# Altium schematic symbol library Schlib_jp.SchLib: 203 symbols (part 6 of 6)
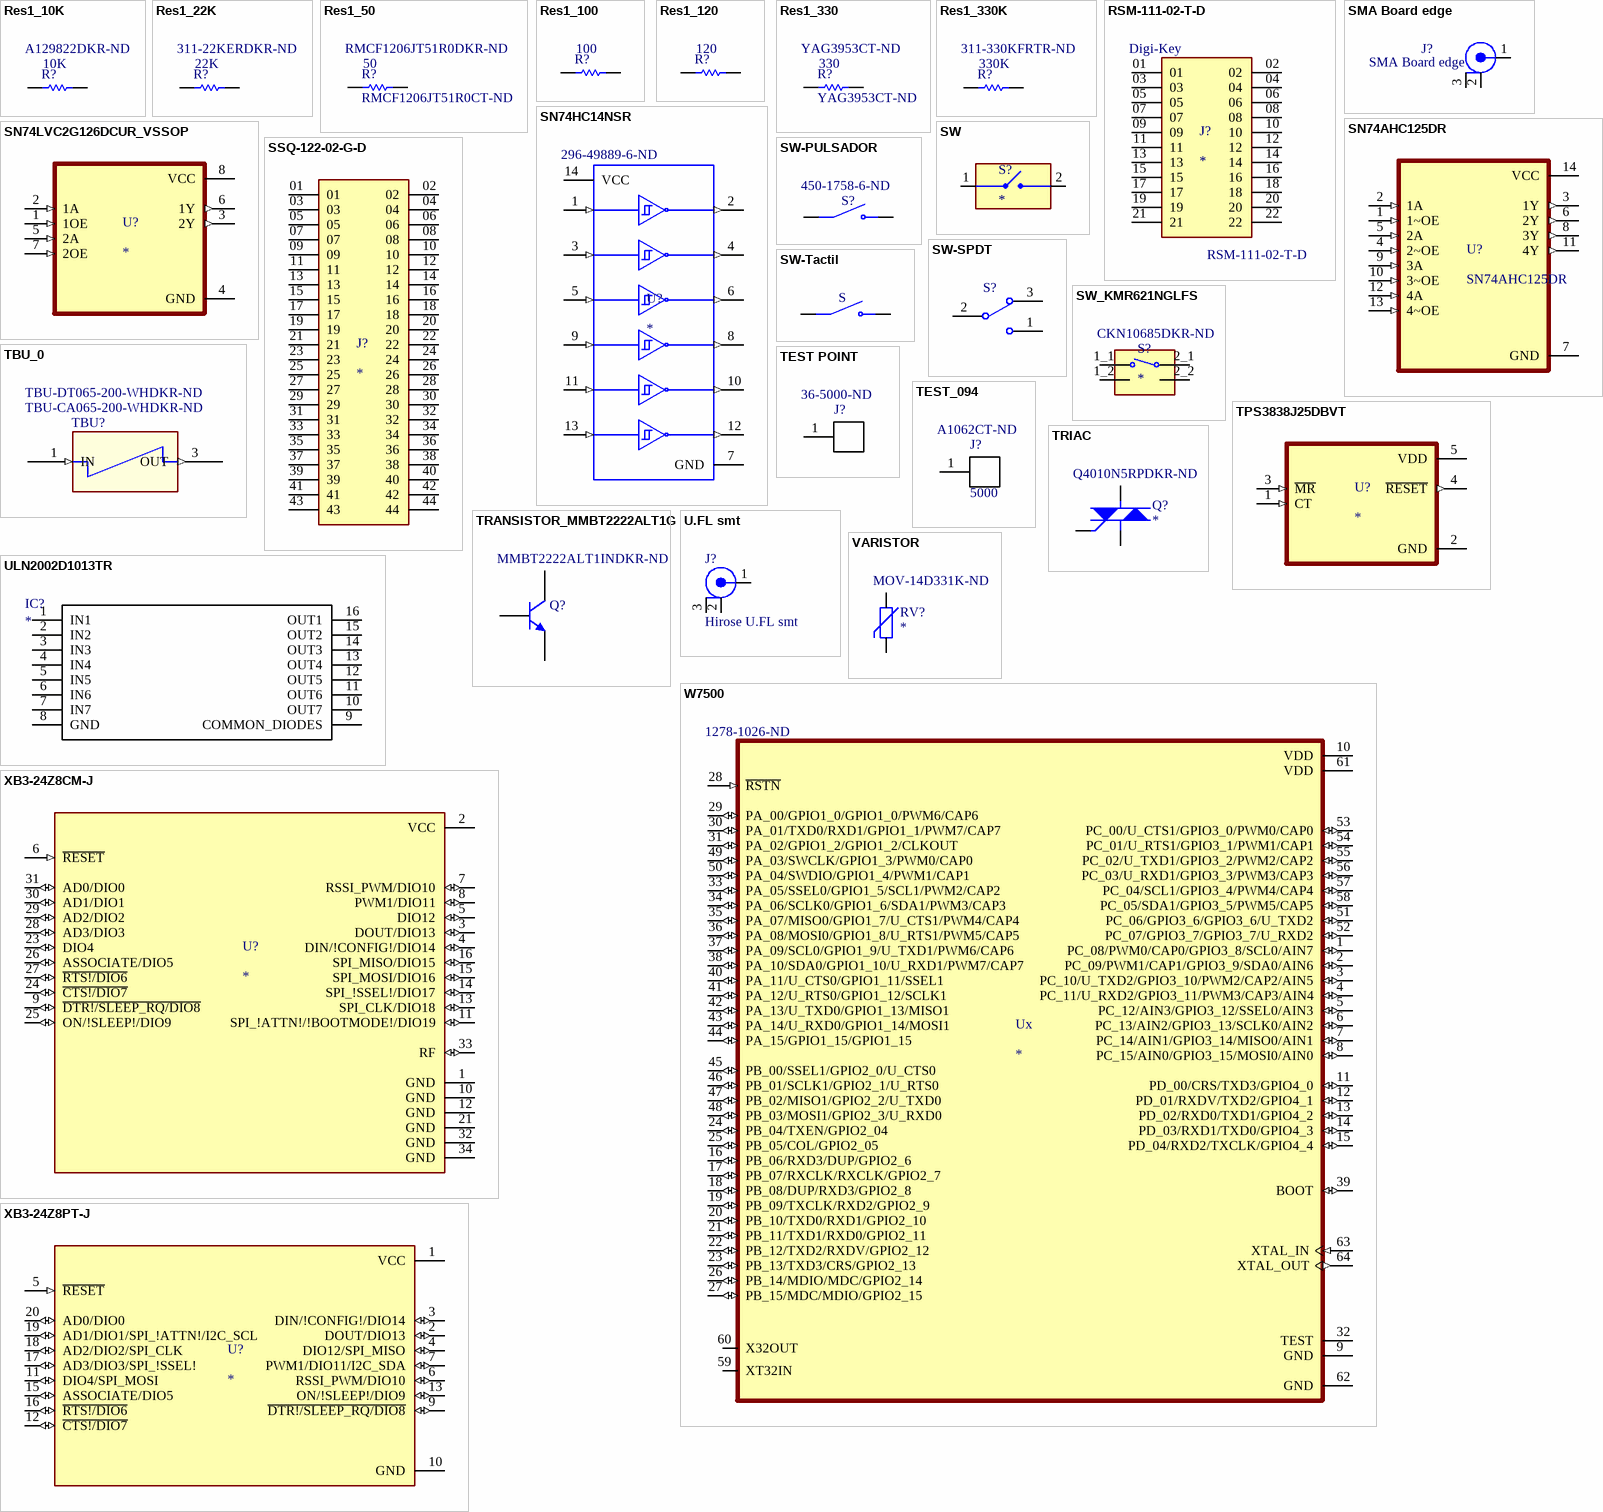
[diagram p13: symbols Res1_10K to XB3-24Z8PT-J]

## TEST POINT
designator J?, comment 36-5000-ND
Red PC Test Point, Miniature Phosphor Bronze Silver Plating Through Hole Mounting Type; MF: Keystone Electronics; MP: 5000; Body Material: PBT,Bronze; Number of Contacts: 1; Insulation: Insulated; Outside Diameter: 2.54mm; Inside Diameter: 1.27mm; Hole Diameter: 1.6mm; Package: TO-3 3M; Availability: Unavailable; SnapEDA_Link: https://www.snapeda.com/parts/5000/Keystone%20Electronics/view-part/?ref=snap; Price: None; Value: *; Supplier 1: Digi-Key; Manufacturer: Keystone Electronics; Manufacturer Part Number: 5000; Stock 1: 183854; Pricing 1: 1=0.35, 10=0.335, 50=0.2438, 250=0.21032, 1000=0.1714, 2500=0.15296, 5000=0.1434 (USD); Mount: Through Hole,PCB; Color: Red; Material: Nylon,Bronze,Silver; Contact Material: Bronze; Contact Plating: Silver,Tin; Plating: Silver; Housing Color: Red; Package Quantity: 100; Packaging: Bulk; Number of Ports: 1; Orientation: Straight; Length: 7.62mm; Height: 0.3inch; REACH SVHC: No SVHC; Lead Free: Lead Free; Flammability Rating: UL94 V-0; ComponentLink1URL: http://www.keyelco.com/product-pdf.cfm?p=1309&src-supplier=Digi-Key; ComponentLink1Description: http://www.keyelco.com/product-pdf.cfm?p=1309&src-supplier=Digi-Key; ComponentLink2URL: http://www.alliedelec.com/m/d/a35543cf4de068fc17c6a4282c4b707f.pdf?src-supplier=Allied+Electronics; ComponentLink2Description: http://www.alliedelec.com/m/d/a35543cf4de068fc17c6a4282c4b707f.pdf?src-supplier=Allied+Electronics; ComponentLink3URL: http://uk.rs-online.com/webdocs/1416/0900766b814167ba.pdf?src-supplier=RSComponents; ComponentLink3Description: http://uk.rs-online.com/webdocs/1416/0900766b814167ba.pdf?src-supplier=RSComponents; Link: https://www.digikey.com/en/products/detail/keystone-electronics/5000/255326; Digi_Key_Part_Number: 36-5000-ND; Supplier Part Number 1: 36-5000-ND
footprint TEST POINT
pins: 1

## TEST_094
designator J?, comment 5000  Supplier Part Number 1: A1062CT-ND
Circuit Board Hardware - PCB TEST POINT RED; MF: Keystone Electronics; Body Material: PBT,Bronze; Plating: Silver; Number of Contacts: 1; Insulation: Insulated; Outside Diameter: 2.54mm; Inside Diameter: 1.27mm; Hole Diameter: 1.6mm; Body Plating: Tin; Gender: Female; Voltage Rating (AC): 300V; Heavy Duty: No; Insulated Wire Support: Yes; Material Thickness: 0.79mm; Plating Thickness: 2.54um; Sealable: No (Without); Wire Gauge (Max): 22AWG; Wire Gauge (Min): 16AWG; Insulation Diameter: 3.56mm; Stud Diameter: 5mm; Package: TO-3 3M; Availability: Unavailable; SnapEDA_Link: https://www.snapeda.com/parts/5000/Keystone%20Electronics/view-part/?ref=snap; Price: None; MP: 5000; Value: *; Manufacturer: Keystone Electronics; Manufacturer Part Number: 5000; Mount: Through Hole,PCB; Color: Red; Material: Nylon,Bronze,Silver; Contact Material: Bronze; Contact Plating: Silver,Tin; Housing Color: Red; Package Quantity: 100; Packaging: Bulk; Number of Ports: 1; Orientation: Straight; Length: 7.62mm; Height: 0.3inch; REACH SVHC: No SVHC; Lead Free: Lead Free; Flammability Rating: UL94 V-0; ComponentLink1URL: http://www.keyelco.com/product-pdf.cfm?p=1309&src-supplier=Digi-Key; ComponentLink1Description: http://www.keyelco.com/product-pdf.cfm?p=1309&src-supplier=Digi-Key; ComponentLink2URL: http://www.alliedelec.com/m/d/a35543cf4de068fc17c6a4282c4b707f.pdf?src-supplier=Allied+Electronics; ComponentLink2Description: http://www.alliedelec.com/m/d/a35543cf4de068fc17c6a4282c4b707f.pdf?src-supplier=Allied+Electronics; ComponentLink3URL: http://uk.rs-online.com/webdocs/1416/0900766b814167ba.pdf?src-supplier=RSComponents; ComponentLink3Description: http://uk.rs-online.com/webdocs/1416/0900766b814167ba.pdf?src-supplier=RSComponents; Supplier 1: Digi-Key; Stock 1: 38032; Pricing 1: 1=0.36, 10=0.343, 25=0.294, 50=0.2498, 100=0.24, 250=0.21552, 500=0.20574, 1000=0.17145, 2500=0.15675 (USD); Insulation Material: Nylon; Termination: Circular; Voltage Rating (DC): 300V; Number of Holes: 1; Shrouded: No (Without); Wire/Cable Gauge: 16AWG; Thickness: 0.031inch; Depth: 7.92mm; Tongue Thickness: 0.79mm; Wire/Cable Diameter: 3.56mm; Radiation Hardening: No; ELV: Compliant; Government Qualified: Yes; ComponentLink4URL: https://www.te.com/commerce/DocumentDelivery/DDEController?Action=srchrtrv&DocNm=36154&DocType=Customer+Drawing&DocLang=English&src-supplier=Digi-Key; ComponentLink4Description: https://www.te.com/commerce/DocumentDelivery/DDEController?Action=srchrtrv&DocNm=36154&DocType=Customer+Drawing&DocLang=English&src-supplier=Digi-Key; ComponentLink5URL: http://www.te.com/commerce/DocumentDelivery/DDEController?Action=showdoc&DocId=Customer+Drawing%7F36154%7FR1%7Fpdf%7FEnglish%7FENG_CD_36154_R1.pdf%7F2-36154-2&src-supplier=Future+Electronics; ComponentLink5Description: http://www.te.com/commerce/DocumentDelivery/DDEController?Action=showdoc&DocId=Customer+Drawing%7F36154%7FR1%7Fpdf%7FEnglish%7FENG_CD_36154_R1.pdf%7F2-36154-2&src-supplier=Future+Electronics; ComponentLink6URL: https://www.verical.com/server-webapp/html/getDatasheet?partID=93824&src-supplier=Verical; ComponentLink6Description: https://www.verical.com/server-webapp/html/getDatasheet?partID=93824&src-supplier=Verical; ComponentLink7URL: http://www.jameco.com/Jameco/Products/ProdDS/836781.pdf?src-supplier=Jameco; ComponentLink7Description: http://www.jameco.com/Jameco/Products/ProdDS/836781.pdf?src-supplier=Jameco; ComponentLink8URL: http://www.te.com/commerce/DocumentDelivery/DDEController?Action=srchrtrv&DocNm=82042_StdTermsSplices&DocType=DS&DocLang=English&s_cid=1046&src-supplier=Avnet; ComponentLink8Description: http://www.te.com/commerce/DocumentDelivery/DDEController?Action=srchrtrv&DocNm=82042_StdTermsSplices&DocType=DS&DocLang=English&s_cid=1046&src-supplier=Avnet; ComponentLink9URL: https://www.alliedelec.com/m/d/026e5c598ba183ab831b987b0a1c66b1.pdf?src-supplier=Allied+Electronics; ComponentLink9Description: https://www.alliedelec.com/m/d/026e5c598ba183ab831b987b0a1c66b1.pdf?src-supplier=Allied+Electronics
footprint TEST_094
pins: 1

## TPS3838J25DBVT
designator U?
MP: TPS3838J25DBVT; Package: None; Price: None; Value: *; Availability: Unavailable
footprint SOT95P280X145-5N
footprint SOT95P280X145-5N
pins: 1 CT (in), 2 GND (power), 3 ~{MR} (in), 4 ~{RESET} (out), 5 VDD (power)

## TRANSISTOR_MMBT2222ALT1G
designator Q?, comment Supplier Part Number 1: MMBT2222ALT1INDKR-ND  (hidden comment: MMBT2222ALT1HTSA1CT-ND)
Transistor bipolar (BJT) NPN 40V 600mA 300MHz 225mW Montaje en superficie SOT-23; Manufacturer: ON Semiconductor; Manufacturer Part Number: MMBT2222ALT1G; Power Dissipation: 300mW; hFE Min: 100; Number of Elements: 1; Collector Base Voltage (VCBO): 75V; Emitter Base Voltage (VEBO): 6V; Collector Emitter Saturation Voltage: 1V; Element Configuration: Single; Type: General Purpose; Published: 8-Jun-2000; LatestRevisionDate: 15-Jan-2003; LatestRevisionNote: PCB Footprint 'BCY-W3/D4.7' replaced; DatasheetVersion: 1997; PackageVersion: Sep-1998; PackageReference: TO-92A; Publisher: Altium Limited; PackageDescription: TO, Flat Index; 3 In-Line, Axial Leads; Body Dia. 4.5mm; Leads 0.51 x 0.48 mm (max); ComponentLink1Description: Manufacturer Link; ComponentLink1URL: http://www.fairchildsemi.com/; ComponentLink2Description: Datasheet; ComponentLink2URL: http://www.fairchildsemi.com/ds/2N%2F2N3904.pdf; Case/Package: SOT-23-3; Number of Pins: 3; Contact Plating: Tin,Matte; Min Operating Temperature: -55°C; Max Operating Temperature: 150°C; Packaging: Tape and Reel; Polarity: NPN; Max Power Dissipation: 300mW; Package Quantity: 1; Frequency: 300MHz; Collector Emitter Voltage (VCEO): 40V; Max Collector Current: 600mA; Collector Emitter Breakdown Voltage: 40V; Transition Frequency: 300MHz; Max Breakdown Voltage: 40V; Max Frequency: 300MHz; Gain Bandwidth Product: 300MHz; Voltage Rating (DC): 40V; Current Rating: 600mA; Length: 2.9mm; Height: 0.94mm; Width: 1.3mm; Radiation Hardening: No; REACH SVHC: No SVHC; Lead Free: Lead Free; ComponentLink3URL: http://www.onsemi.com/pub/Collateral/MMBT2222LT1-D.PDF?src-supplier=Future+Electronics; ComponentLink3Description: http://www.onsemi.com/pub/Collateral/MMBT2222LT1-D.PDF?src-supplier=Future+Electronics; ComponentLink4URL: https://www.verical.com/server-webapp/html/getDatasheet?partID=82691&src-supplier=Verical; ComponentLink4Description: https://www.verical.com/server-webapp/html/getDatasheet?partID=82691&src-supplier=Verical; ComponentLink5URL: http://www.onsemi.com/pub/Collateral/MMBT2222LT1-D.PDF?src-supplier=Digi-Key; ComponentLink5Description: http://www.onsemi.com/pub/Collateral/MMBT2222LT1-D.PDF?src-supplier=Digi-Key; ComponentLink6URL: http://www.farnell.com/datasheets/2353900.pdf?src-supplier=Element14; ComponentLink6Description: http://www.farnell.com/datasheets/2353900.pdf?src-supplier=Element14; ComponentLink7URL: https://www.alliedelec.com/m/d/3e1498de1daf94616fa6373a99352057.pdf?src-supplier=Allied+Electronics; ComponentLink7Description: https://www.alliedelec.com/m/d/3e1498de1daf94616fa6373a99352057.pdf?src-supplier=Allied+Electronics; ComponentLink8URL: http://www.onsemi.com/pub/Collateral/MMBT2222LT1-D.PDF?src-supplier=Avnet; ComponentLink8Description: http://www.onsemi.com/pub/Collateral/MMBT2222LT1-D.PDF?src-supplier=Avnet; ComponentLink9URL: http://www.onsemi.com/pub/Collateral/MMBT2222LT1-D.PDF?src-supplier=Avnet+Europe; ComponentLink9Description: http://www.onsemi.com/pub/Collateral/MMBT2222LT1-D.PDF?src-supplier=Avnet+Europe; Supplier 1: Digi-Key; Digi_Key_Part_Number: MMBT2222ALT1HTSA1CT-ND; Link: https://www.digikey.com/es/products/detail/infineon-technologies/MMBT2222ALT1HTSA1/593093?s=N4IgTCBcDaILJwEIBUxrAQQDLIIwAlkBlDXAYWQFoA5AERAF0BfIA; ComponentLink10Description: TRANS NPN 40V 0.6A SOT-23; ComponentLink10URL: https://www.digikey.com/es/products/detail/infineon-technologies/MMBT2222ALT1HTSA1/593093?s=N4IgTCBcDaILJwEIBUxrAQQDLIIwAlkBlDXAYWQFoA5AERAF0BfIA
footprint SOT-23-M
pins: 1, 2, 3

## TRIAC
designator Q?  Supplier Part Number 1: Q4010N5RPDKR-ND
Manufacturer: Littelfuse; Manufacturer Part Number: Q4010N5RP; RMS Current (Irms): 10A; Element Configuration: Single; Hold Current: 50mA; Voltage Rating (DC): 400V; Supplier 1: Digi-Key; Stock 1: 1025; Pricing 1: 1=2.03, 10=1.823, 25=1.72, 100=1.4655, 250=1.37608 (USD); Mount: Surface Mount; Case/Package: TO-263-3; Min Operating Temperature: -40°C; Max Operating Temperature: 125°C; Packaging: Tape and Reel; Package Quantity: 1; Current Rating: 10A; Lead Free: Lead Free; ComponentLink1URL: https://media.digikey.com/pdf/Data%20Sheets/Littelfuse%20PDFs/Packing%20Options.pdf?src-supplier=Digi-Key; ComponentLink1Description: https://media.digikey.com/pdf/Data%20Sheets/Littelfuse%20PDFs/Packing%20Options.pdf?src-supplier=Digi-Key; ComponentLink2URL: http://www.littelfuse.com/data/en/Data_Sheets/Littelfuse_Thyristor_Qxx10xx_Qxx10xHx.pdf?src-supplier=Future+Electronics; ComponentLink2Description: http://www.littelfuse.com/data/en/Data_Sheets/Littelfuse_Thyristor_Qxx10xx_Qxx10xHx.pdf?src-supplier=Future+Electronics
footprint TO263
pins: 1, 2, 3

## U.FL smt
designator J?, comment Hirose U.FL smt
U.FL (UMCC) Conector Receptáculo, pin macho 50Ohm Montaje en superficie Soldadura; Digi_Key_Part_Number: H9161CT-ND; Supplier 1: Digi-Key; Supplier Part Number 1: H9161CT-ND; Link: https://www.digikey.com/es/products/detail/U.FL-R-SMT(10)/H9161CT-ND/2135256?utm_campaign=buynow&utm_medium=aggregator&curr=usd&utm_source=octopart; ComponentLink1Description: CONN U.FL RCPT STR 50 OHM SMD; ComponentLink1URL: https://www.digikey.com/es/products/detail/U.FL-R-SMT(10)/H9161CT-ND/2135256?utm_campaign=buynow&utm_medium=aggregator&curr=usd&utm_source=octopart
footprint U.FL SMT
pins: 1 CENTER, 2 SHIELD, 3 SHIELD1

## ULN2002D1013TR
designator IC?
Integrated Circuit; Manufacturer_Name: STMicroelectronics; Manufacturer_Part_Number: ULN2002D1013TR; Datasheet Link: http://www.st.com/st-web-ui/static/active/en/resource/technical/document/datasheet/CD00001244.pdf; Height: 1.75mm; Mouser Part Number: 511-ULN2002D1013TR; Mouser Price/Stock: https://www.mouser.co.uk/ProductDetail/STMicroelectronics/ULN2002D1013TR?qs=YnPipOpXm6EqHzPlgAHRAA%3D%3D; Arrow Part Number: ULN2002D1013TR; Arrow Price/Stock: https://www.arrow.com/en/products/uln2002d1013tr/stmicroelectronics
footprint SOIC127P600X175-16N
pins: 1 IN1, 2 IN2, 3 IN3, 4 IN4, 5 IN5, 6 IN6, 7 IN7, 8 GND, 9 COMMON_DIODES, 10 OUT7, 11 OUT6, 12 OUT5, 13 OUT4, 14 OUT3, 15 OUT2, 16 OUT1

## VARISTOR
designator RV?  Supplier Part Number 1: MOV-14D331K-ND
Manufacturer: Bourns; Manufacturer Part Number: MOV-14D331K; Capacitance: 610pF; Voltage Rating (DC): 330V; Max Surge Current: 4.5kA; Current Rating: 50A; Tolerance: 10%; Max Voltage Rating (AC): 210V; Max Voltage Rating (DC): 275V; Number of Circuits: 1; Energy: 85J; Clamping Voltage: 550V; Power Rating: 600mW; Min Varistor Voltage: 297V; Max Varistor Voltage: 363V; Supplier 1: Digi-Key; Stock 1: 396; Pricing 1: 1=0.39, 10=0.306, 25=0.258, 100=0.21, 250=0.174, 500=0.144, 1000=0.108, 2500=0.099, 5000=0.093 (USD); Mount: Through Hole,Radial; Case/Package: Radial; Weight: 0.105822oz; Min Operating Temperature: -40°C; Max Operating Temperature: 85°C; Packaging: Bulk; Package Quantity: 1000; Clamping Current: 50A; Varistor Voltage: 330V; Diameter: 14mm; Lead Pitch: 7.5mm; Thickness: 4.6mm; Radiation Hardening: No; ComponentLink1URL: http://www.bourns.com/data/global/pdfs/mov14D.pdf?src-supplier=Avnet; ComponentLink1Description: http://www.bourns.com/data/global/pdfs/mov14D.pdf?src-supplier=Avnet; ComponentLink2URL: https://www.alliedelec.com/m/d/b9e30445819aaec1c204374a1e6943ca.pdf?src-supplier=Allied+Electronics; ComponentLink2Description: https://www.alliedelec.com/m/d/b9e30445819aaec1c204374a1e6943ca.pdf?src-supplier=Allied+Electronics; ComponentLink3URL: http://www.bourns.com/docs/Product-Datasheets/MOV14D.pdf?src-supplier=Digi-Key; ComponentLink3Description: http://www.bourns.com/docs/Product-Datasheets/MOV14D.pdf?src-supplier=Digi-Key
footprint VARISTOR2
pins: 1, 2

## W7500
designator Ux  Supplier Part Number 1: 1278-1026-ND
ARMÂ® CortexÂ®-M0 - Microcontroller IC 32-Bit 48MHz 128KB _32K x 32_ FLASH 64-TQFP _7x7_; MF: WIZnet; MP: W7500; SnapEDA_Link: https://www.snapeda.com/parts/W7500/WIZnet/view-part/225423/?ref=snap; Value: *; Availability: Unavailable; Price: None; Package: TQFP-64 WIZnet; Supplier 1: Digi-Key; ComponentLink1Description: 1278-1026-ND; ComponentLink1URL: https://www.digikey.com/es/products/detail/wiznet/W7500/5402374
footprint W7500-LQFP64 (WIZnet ARM Cortex-M0, LQFP64, Pitch 0.40mm)
pins: 1 PC_08/PWM0/CAP0/GPIO3_8/SCL0/AIN7 (io), 2 PC_09/PWM1/CAP1/GPIO3_9/SDA0/AIN6 (io), 3 PC_10/U_TXD2/GPIO3_10/PWM2/CAP2/AIN5 (io), 4 PC_11/U_RXD2/GPIO3_11/PWM3/CAP3/AIN4 (io), 5 PC_12/AIN3/GPIO3_12/SSEL0/AIN3 (io), 6 PC_13/AIN2/GPIO3_13/SCLK0/AIN2 (io), 7 PC_14/AIN1/GPIO3_14/MISO0/AIN1 (io), 8 PC_15/AIN0/GPIO3_15/MOSI0/AIN0 (io), 9 GND (power), 10 VDD (power), 11 PD_00/CRS/TXD3/GPIO4_0 (io), 12 PD_01/RXDV/TXD2/GPIO4_1 (io), 13 PD_02/RXD0/TXD1/GPIO4_2 (io), 14 PD_03/RXD1/TXD0/GPIO4_3 (io), 15 PD_04/RXD2/TXCLK/GPIO4_4 (io), 16 PB_06/RXD3/DUP/GPIO2_6 (io), 17 PB_07/RXCLK/RXCLK/GPIO2_7 (io), 18 PB_08/DUP/RXD3/GPIO2_8 (io), 19 PB_09/TXCLK/RXD2/GPIO2_9 (io), 20 PB_10/TXD0/RXD1/GPIO2_10 (io), 21 PB_11/TXD1/RXD0/GPIO2_11 (io), 22 PB_12/TXD2/RXDV/GPIO2_12 (io), 23 PB_13/TXD3/CRS/GPIO2_13 (io), 24 PB_04/TXEN/GPIO2_04 (io), 25 PB_05/COL/GPIO2_05 (io), 26 PB_14/MDIO/MDC/GPIO2_14 (io), 27 PB_15/MDC/MDIO/GPIO2_15 (io), 28 ~{RSTN} (in), 29 PA_00/GPIO1_0/GPIO1_0/PWM6/CAP6 (io), 30 PA_01/TXD0/RXD1/GPIO1_1/PWM7/CAP7 (io), 31 PA_02/GPIO1_2/GPIO1_2/CLKOUT (io), 32 TEST (power), 33 PA_05/SSEL0/GPIO1_5/SCL1/PWM2/CAP2 (io), 34 PA_06/SCLK0/GPIO1_6/SDA1/PWM3/CAP3 (io), 35 PA_07/MISO0/GPIO1_7/U_CTS1/PWM4/CAP4 (io), 36 PA_08/MOSI0/GPIO1_8/U_RTS1/PWM5/CAP5 (io), 37 PA_09/SCL0/GPIO1_9/U_TXD1/PWM6/CAP6 (io), 38 PA_10/SDA0/GPIO1_10/U_RXD1/PWM7/CAP7 (io), 39 BOOT (io), 40 PA_11/U_CTS0/GPIO1_11/SSEL1 (io), 41 PA_12/U_RTS0/GPIO1_12/SCLK1 (io), 42 PA_13/U_TXD0/GPIO1_13/MISO1 (io), 43 PA_14/U_RXD0/GPIO1_14/MOSI1 (io), 44 PA_15/GPIO1_15/GPIO1_15 (io), 45 PB_00/SSEL1/GPIO2_0/U_CTS0 (io), 46 PB_01/SCLK1/GPIO2_1/U_RTS0 (io), 47 PB_02/MISO1/GPIO2_2/U_TXD0 (io), 48 PB_03/MOSI1/GPIO2_3/U_RXD0 (io), 49 PA_03/SWCLK/GPIO1_3/PWM0/CAP0 (io), 50 PA_04/SWDIO/GPIO1_4/PWM1/CAP1 (io), 51 PC_06/GPIO3_6/GPIO3_6/U_TXD2 (io), 52 PC_07/GPIO3_7/GPIO3_7/U_RXD2 (io), 53 PC_00/U_CTS1/GPIO3_0/PWM0/CAP0 (io), 54 PC_01/U_RTS1/GPIO3_1/PWM1/CAP1 (io), 55 PC_02/U_TXD1/GPIO3_2/PWM2/CAP2 (io), 56 PC_03/U_RXD1/GPIO3_3/PWM3/CAP3 (io), 57 PC_04/SCL1/GPIO3_4/PWM4/CAP4 (io), 58 PC_05/SDA1/GPIO3_5/PWM5/CAP5 (io), 59 XT32IN, 60 X32OUT, 61 VDD (power), 62 GND (power), 63 XTAL_IN (in), 64 XTAL_OUT (out)

## XB3-24Z8CM-J
designator U?
802.15.4 ZigbeeÂ® Transceiver Module 2.4GHz Integrated, Chip Surface Mount; MF: Digi International; MP: XB3-24Z8CM-J; Price: None; Availability: Unavailable; SnapEDA_Link: https://www.snapeda.com/parts/XB3-24Z8CM-J/Digi%20International/view-part/2597885/?ref=snap; Value: *; Package: SMD-34 Digi International
footprint XCVR_XB3-24Z8CM-J
pins: 1 GND (power), 2 VCC (power), 3 DOUT/DIO13 (io), 4 DIN/!CONFIG!/DIO14 (io), 5 DIO12 (io), 6 ~{RESET} (in), 7 RSSI_PWM/DIO10 (io), 8 PWM1/DIO11 (io), 9 ~{DTR!/SLEEP_RQ/DIO8} (io), 10 GND (power), 11 SPI_!ATTN!/!BOOTMODE!/DIO19 (io), 12 GND (power), 13 SPI_CLK/DIO18 (io), 14 SPI_!SSEL!/DIO17 (io), 15 SPI_MOSI/DIO16 (io), 16 SPI_MISO/DIO15 (io), 21 GND (power), 23 DIO4 (io), 24 ~{CTS!/DIO7} (io), 25 ON/!SLEEP!/DIO9 (io), 26 ASSOCIATE/DIO5 (io), 27 ~{RTS!/DIO6} (io), 28 AD3/DIO3 (io), 29 AD2/DIO2 (io), 30 AD1/DIO1 (io), 31 AD0/DIO0 (io), 32 GND (power), 33 RF (io), 34 GND (power)

## XB3-24Z8PT-J
designator U?
802.15.4 ZigbeeÂ® Transceiver Module 2.4GHz Integrated, Trace Through Hole; MP: XB3-24Z8PT-J; MF: Digi International; Value: *; Digi-Key_Purchase_URL: https://www.digikey.ch/product-detail/en/digi/XB3-24Z8PT-J/602-2188-ND/8130934?utm_source=snapeda&utm_medium=aggregator&utm_campaign=symbol; Package: Module Digi International; SnapEDA_Link: https://www.snapeda.com/parts/XB3-24Z8PT-J/Digi%20International/view-part/2751315/?ref=snap; Digi-Key_Part_Number: 602-2188-ND
footprint XCVR_XB3-24Z8PT-J
pins: 1 VCC (power), 2 DOUT/DIO13 (io), 3 DIN/!CONFIG!/DIO14 (io), 4 DIO12/SPI_MISO (io), 5 ~{RESET} (in), 6 RSSI_PWM/DIO10 (io), 7 PWM1/DIO11/I2C_SDA (io), 9 ~{DTR!/SLEEP_RQ/DIO8} (io), 10 GND (power), 11 DIO4/SPI_MOSI (io), 12 ~{CTS!/DIO7} (io), 13 ON/!SLEEP!/DIO9 (io), 15 ASSOCIATE/DIO5 (io), 16 ~{RTS!/DIO6} (io), 17 AD3/DIO3/SPI_!SSEL! (io), 18 AD2/DIO2/SPI_CLK (io), 19 AD1/DIO1/SPI_!ATTN!/I2C_SCL (io), 20 AD0/DIO0 (io)

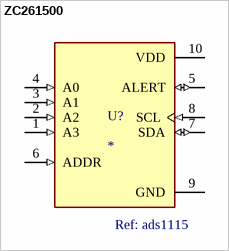
[diagram p8: symbol ZC261500]

## ZC261500
designator U?  Ref: ads1115
ADS1115 Module ADC 4 channel with Pro Gain Amplifier for Arduino RPi; MP: ZC261500; MF: YKS; Value: *; SnapEDA_Link: https://www.snapeda.com/parts/ZC261500/YKS/view-part/621058/?ref=snap; Availability: Unavailable; Price: None; Package: None
footprint MODULE_ZC261500
pins: 1 A3 (in), 2 A2 (in), 3 A1 (in), 4 A0 (in), 5 ALERT (io), 6 ADDR (in), 7 SDA (io), 8 SCL (in), 9 GND (power), 10 VDD (power)